# Altium footprint library HarringtonFootprintLibrary.PcbLib: 1 footprints
Each footprint in its own frame and in the unit in brackets; x right, y up, seen from the top. Pads: shape width x height; smd on the part's side, far side on the other; paste and mask are expansions set on the pad; w line width, h text height; cw(c..) or ccw(c..) is an arc to the next point about the centre after c.
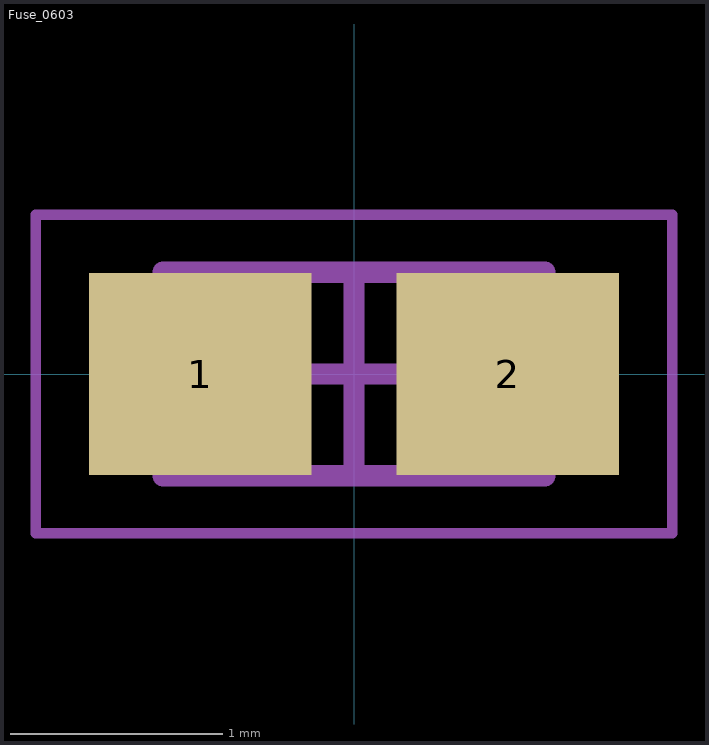
[diagram p0: the footprint, top view; thin cyan lines are the x and y axes]

## Fuse_0603 [mm] "Chip Resistor, 2-Leads, Body 1.60x0.86mm, IPC Medium Density"
height 0.65
pads (2):
  rect 1.05x0.95 smd: 1(-0.725,0) 2(0.725,0)
Mechanical 13:
  lines w0.1: -0.9,-0.48 0.9,-0.48 0.9,0.48 -0.9,0.48 -0.9,-0.48
Mechanical 15:
  lines w0.05: -1.5,-0.75 1.5,-0.75 1.5,0.75 -1.5,0.75 -1.5,-0.75
  lines w0.1: -0.48,0 0.48,0 ; 0,-0.48 0,0.48
3D body "Fuse_0603.step": height 0.65, standoff 0, extent -0.9,-0.48 0.9,0.48